# EAGLE library part K-JACK-STEREO-635 (library elpp-tht-v1.2)
Jack stereo, 6.35 mm
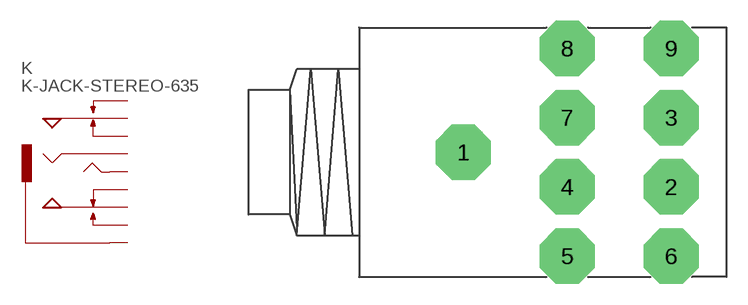
[diagram p49: symbol with the pads of ELPP-JACK-635; footprint ELPP-JACK-635]

Designator prefix K

## K-JACK-STEREO-635 (FARNELL: 1267402; RS: 2049114)  [ELPP-JACK-635]
1  1  pas
2  2  pas
3  3  pas
4  4  pas
5  5  pas
6  6  pas
7  7  pas
8  8  pas
9  9  pas

## Footprint ELPP-JACK-635 (pad centres in mm)
drill 2.5 pad 4 octagon: 1 -7.5,0; 2 7.5,-2.5; 3 7.5,2.5; 4 0,-2.5; 5 0,-7.5; 6 7.5,-7.5; 7 0,2.5; 8 0,7.5; 9 7.5,7.5